# Altium footprint library HANDS-FREEE-PcbLib-V1.9.PcbLib: 236 footprints (part 2 of 16)
Each footprint in its own frame and in the unit in brackets; x right, y up, seen from the top. Pads: shape width x height; smd on the part's side, far side on the other; paste and mask are expansions set on the pad; w line width, h text height; cw(c..) or ccw(c..) is an arc to the next point about the centre after c.
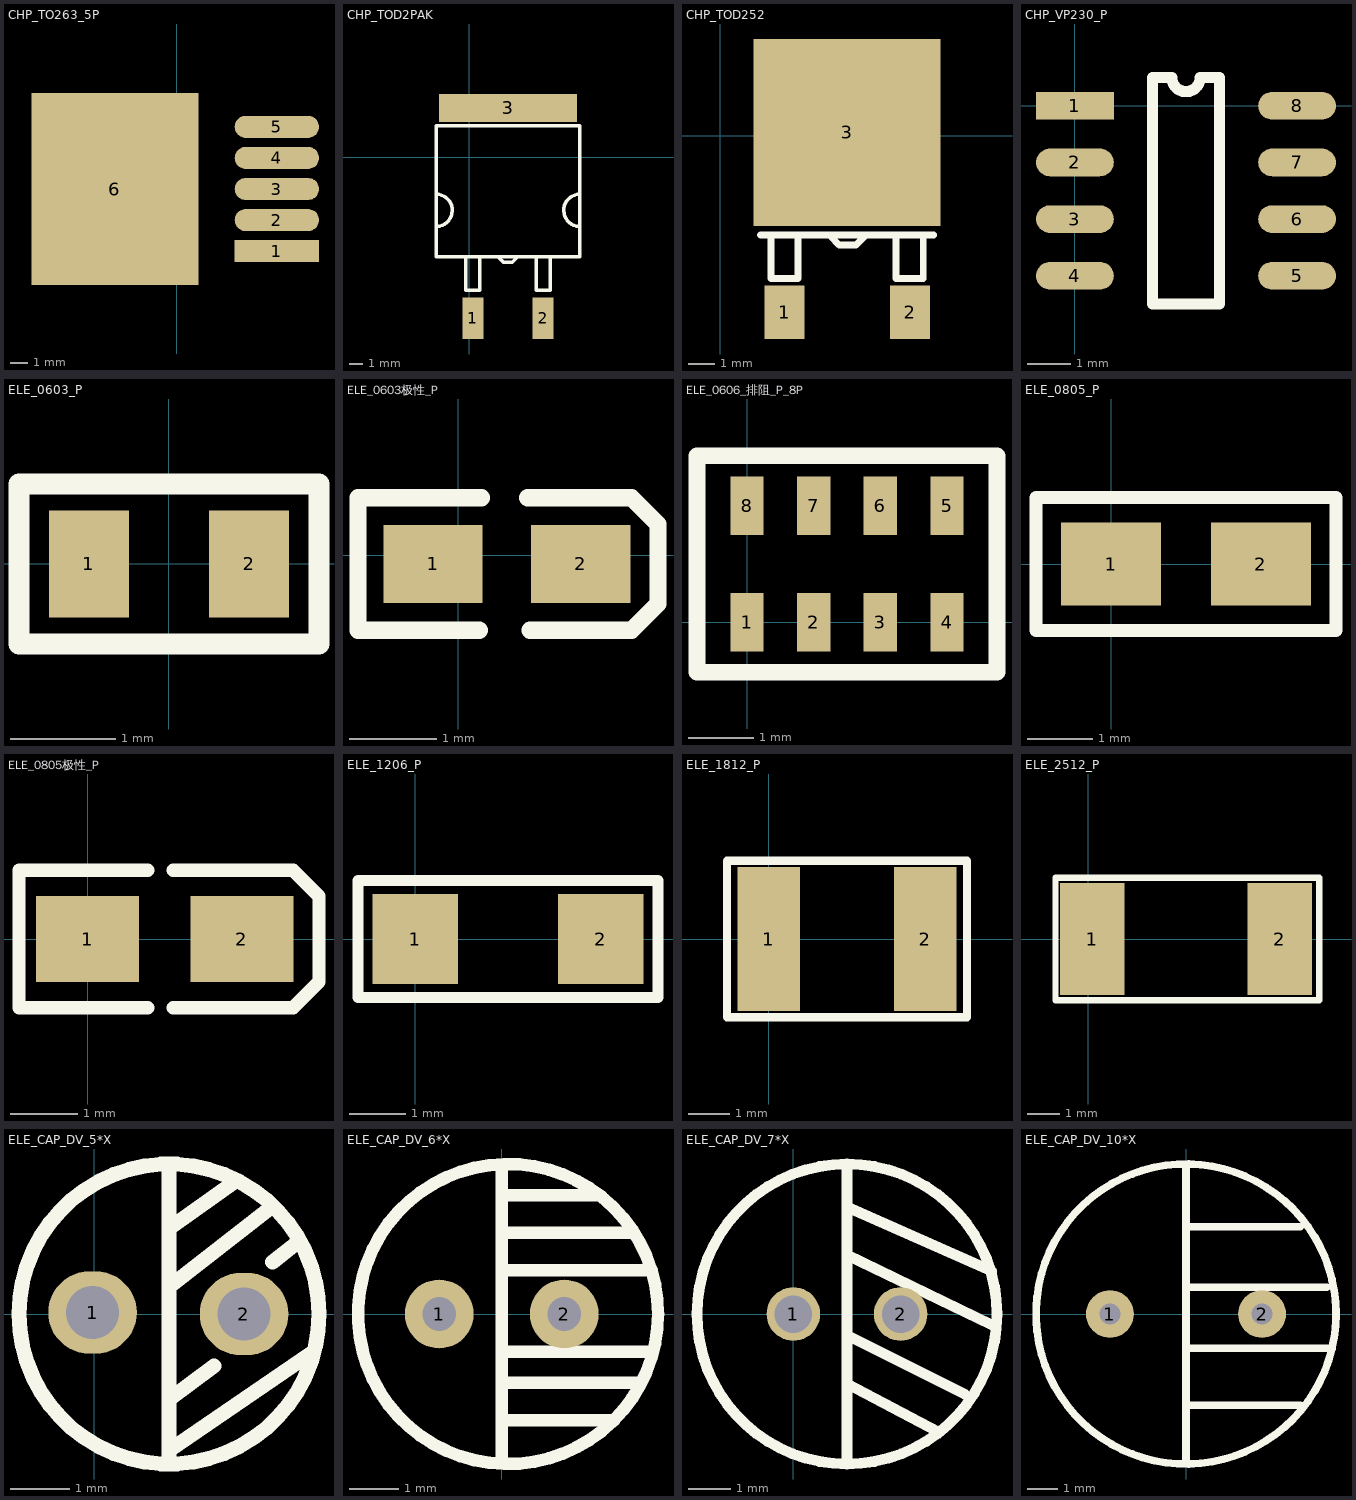
[diagram p1: the footprints below, top view; thin cyan lines are the x and y axes]

## CHP_TO263_5P [mil]
pads (6):
  rect 190x50 smd: 1(225,-680)
  oval 190x50 smd: 2(225,-610) 3(225,-540) 4(225,-470) 5(225,-400)
  rect 376x432 smd: 6(-140,-540)

## CHP_TOD2PAK [mil]
pads (3):
  rect 59.06x118.11 smd: 1(10,-460) 2(210,-460)
  rect 393.7x78.74 smd: 3(110,140)
Top Overlay:
  lines w10: -95,-105.93 cw(c-95,-152) -91.55,-197.94 ; -10,-285 -10,-380 30,-380 30,-285 ; 84,-287 97,-300 122,-300 136.5,-285.5 ; 190,-285 190,-380 230,-380 230,-285 ; 311.55,-197.94 cw(c315,-152) 315,-105.93 ; -95,-285 -95,90 315,90 315,-285 -95,-285

## CHP_TOD252 [mm]
pads (3):
  rect 1.5x2 smd: 1(2.413,-6.604) 2(7.112,-6.604)
  rect 7x7 smd: 3(4.751,0.127)
Top Overlay:
  lines w0.254: 1.507,-3.714 8.001,-3.714 ; 1.905,-3.714 1.905,-5.334 2.921,-5.334 2.921,-3.714 ; 4.127,-3.752 4.458,-4.082 5.093,-4.082 5.461,-3.714 ; 6.587,-3.714 6.587,-5.334 7.603,-5.334 7.603,-3.714

## CHP_VP230_P [mil]
pads (8):
  rect 70x25 smd: 1(0,0)
  oval 70x25 smd: 2(0,-51) 3(0,-102) 4(0,-153) 5(200,-153) 6(200,-102) 7(200,-51) 8(200,0)
Top Overlay:
  lines w10: 70,-178.5 130,-178.5 130,25.5 112.75,25.5 cw(c100,25.5) 87.25,25.5 70,25.5 70,-178.5

## ELE_0603_P [mil]
pads (2):
  rect 30x40 smd: 1(-30,0) 2(30,0)
Top Overlay:
  lines w7.87: 56.14,-30.04 56.14,30 -56.14,30 -56.14,-30 56.14,-30

## ELE_0603极性_P [mil]
pads (2):
  rect 45x35.43 smd: 1(-11.46,-4) 2(55.46,-4)
Top Overlay:
  lines w7.87: 9.54,-34 -45.46,-34 -45.46,26 10.54,26 ; 31.54,26 78.54,26 90.54,14 90.54,-22 78.54,-34 32.54,-34

## ELE_0606_排阻_P_8P [mil]
pads (8):
  rect 20x35 smd: 1(0,0) 2(40,0) 3(80,0) 4(120,0) 5(120,70) 6(80,70) 7(40,70) 8(0,70)
Top Overlay:
  lines w10: -30,-30 -30,100 150,100 150,-30 -30,-30

## ELE_0805_P [mil]
pads (2):
  rect 60x50 smd: 1(0,0) 2(90,0)
Top Overlay:
  lines w7.87: -45,-40 135,-40 135,40 -45,40 -45,-40

## ELE_0805极性_P [mil]
pads (2):
  rect 60x50 smd: 1(0,0) 2(90,0)
Top Overlay:
  lines w7.87: 35,-40 -40,-40 -40,40 35,40 ; 50,-40 120,-40 135,-25 135,25 120,40 50,40

## ELE_1206_P [mil]
pads (2):
  rect 60x62.99 smd: 1(0,0) 2(130,0)
Top Overlay:
  lines w7.87: -40,-41 170,-41 170,41 -40,41 -40,-41

## ELE_1812_P [mil]
pads (2):
  rect 60x137.8 smd: 1(0,0) 2(150,0)
Top Overlay:
  lines w7.87: -40,-75 -40,75 190,75 190,-75 -40,-75

## ELE_2512_P [mm]
pads (2):
  rect 2x3.5 smd: 1(0.127,0) 2(5.969,0)
Top Overlay:
  lines w0.2: -1.016,-1.905 7.2,-1.905 7.2,1.905 -1.016,1.905 -1.016,-1.905

## ELE_CAP_DV_5*X [mil]
pads (2):
  oval 59x55 hole 35.4: 1(-1,1) 2(100,0)
Top Overlay:
  circle w10: c50,0 r100
  lines w10: 50,-100 50,100 ; 50,-91 145,-26 ; 50,-57 79.96,-34.61 ; 50,18 118,71 ; 50,57 95,89 ; 119.11,34.65 136,48

## ELE_CAP_DV_6*X [mil]
pads (2):
  round 55 hole 27: 1(-50,0) 2(50,0)
Top Overlay:
  circle w10: c5,0 r120
  lines w10: 0,-115 0,115 ; 0,-85 90,-85 ; 0,-55 110,-55 ; 0,-30 120,-30 ; 0,35 120,35 ; 0,65 105,65 ; 0,95 75,95

## ELE_CAP_DV_7*X [mil]
pads (2):
  round 50 hole 35: 1(0,0) 2(100,0)
Top Overlay:
  circle w10: c50,0 r140
  lines w10: 50,-140 50,140 ; 50,-65 135,-110 ; 50,-20 160,-75 ; 50,55 185,-10 ; 50,100 185,40

## ELE_CAP_DV_10*X [mm]
pads (2):
  round 1.6 hole 0.7: 1(-2.54,0) 2(2.54,0)
Top Overlay:
  circle w0.254: c0,0 r5.011
  lines w0.254: 0,-4.826 0,4.953 ; 0,-3.048 3.81,-3.048 ; 0,-1.143 4.826,-1.143 ; 0,0.889 4.699,0.889 ; 0,2.921 3.81,2.921